# Altium schematic symbol library CON10-USB.SchLib: 1 symbol
Pins are listed as number, name and electrical type; pins without a type are passive.

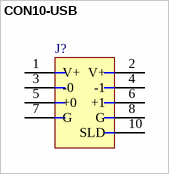
[diagram p0: symbol CON10-USB]

## CON10-USB
designator J?
pins: 1 V+, 2 V+, 3 -0, 4 -1, 5 +0, 6 +1, 7 G, 8 G, 10 SLD